# Altium footprint library Passive.PcbLib: 36 footprints (part 2 of 3)
Each footprint in its own frame and in the unit in brackets; x right, y up, seen from the top. Pads: shape width x height; smd on the part's side, far side on the other; paste and mask are expansions set on the pad; w line width, h text height; cw(c..) or ccw(c..) is an arc to the next point about the centre after c.
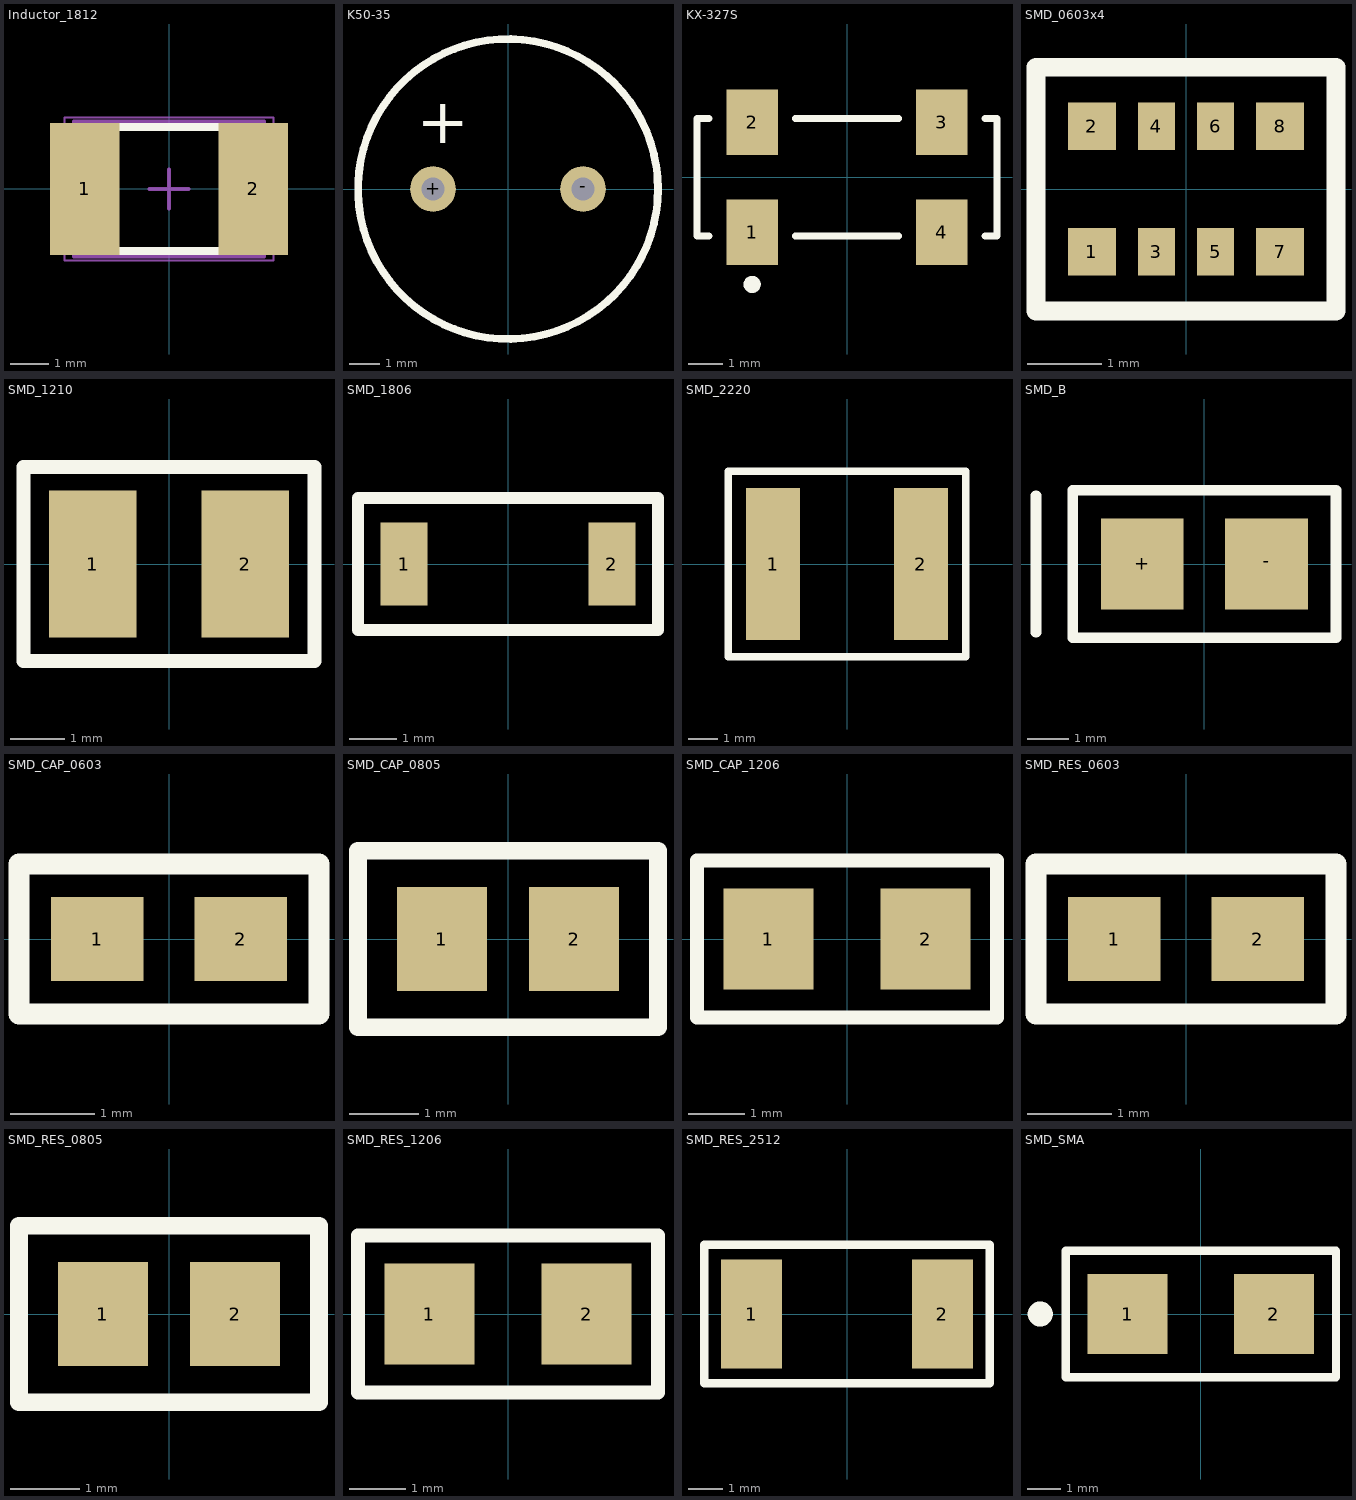
[diagram p1: the footprints below, top view; thin cyan lines are the x and y axes]

## Inductor_1812 [mm] "Body: SMD_1812; 4.5x3.2x2.6mm"
pads (2):
  rect 1.8x3.4 smd: 1(-2.175,0) 2(2.175,0)
Top Overlay:
  lines w0.2: -1.35,-1.6 1.35,-1.6 ; -1.35,1.6 1.35,1.6
Mechanical 13:
  lines w0.1: -2.45,-1.75 2.45,-1.75 2.45,1.75 -2.45,1.75 -2.45,-1.75
Mechanical 15:
  lines w0.05: -2.7,-1.85 2.7,-1.85 2.7,1.85 -2.7,1.85 -2.7,-1.85
  lines w0.1: -0.5,0 0.5,0 ; 0,-0.5 0,0.5
3D body "Inductor-lqh4c 1812.STEP": height 2.6, standoff 0, extent -2.2,-1.6 2.4,1.6

## K50-35 [mm]
pads (2):
  round 1.524 hole 0.75: +(-2.5,0) -(2.5,0)
Top Overlay:
  circle w0.254: c0,0 r5
  text "+" at -3.048,1.524 h1.52

## KX-327S [mm] "Quartz Crystal, SM; Body 8.7 x 3.8 (inc. leads) mm (LxW)"
height 2.5
pads (4):
  rect 1.5x1.9 smd: 1(-2.75,-1.6) 2(-2.75,1.6) 3(2.75,1.6) 4(2.75,-1.6)
Top Overlay:
  circle w0.25: c-2.75,-3.11 r0.125
  lines w0.2: -4,-1.7 -4.35,-1.7 -4.35,1.7 -4,1.7 ; -1.5,-1.7 1.5,-1.7 ; -1.5,1.7 1.5,1.7 ; 4,-1.7 4.35,-1.7 4.35,1.7 4,1.7
3D body "KX-327S.STEP": height 2.5, standoff 0, extent -4,-1.85 4,1.85

## SMD_0603x4 [mm]
pads (8):
  rect 0.65x0.65 smd: 1(-1.275,-0.85) 2(-1.275,0.85) 7(1.275,-0.85) 8(1.275,0.85)
  rect 0.5x0.65 smd: 3(-0.4,-0.85) 4(-0.4,0.85) 5(0.4,-0.85) 6(0.4,0.85)
Top Overlay:
  lines w0.254: -2.032,-1.651 2.032,-1.651 2.032,1.651 -2.032,1.651 -2.032,-1.651

## SMD_1210 [mm]
pads (2):
  rect 1.6x2.7 smd: 1(-1.4,0) 2(1.4,0)
Top Overlay:
  lines w0.254: -2.667,-1.778 -2.667,1.778 2.667,1.778 2.667,-1.778 -2.667,-1.778

## SMD_1806 [mm]
pads (2):
  rect 1x1.75 smd: 1(-2.2,0) 2(2.2,0)
Top Overlay:
  lines w0.254: -3.175,-1.397 3.175,-1.397 3.175,1.397 -3.175,1.397 -3.175,-1.397
3D body "L1806.STEP": height 1.6, standoff 0, extent -2.25,-0.8 2.25,0.8

## SMD_2220 [mm]
pads (2):
  rect 1.85x5.2 smd: 1(-2.53,0) 2(2.53,0)
Top Overlay:
  lines w0.254: -4.064,-3.175 4.064,-3.175 4.064,3.175 -4.064,3.175 -4.064,-3.175

## SMD_B [mm]
pads (2):
  rect 2x2.2 smd: +(-1.5,0) -(1.5,0)
Top Overlay:
  lines w0.254: -4.064,-1.651 -4.064,1.651 ; -3.175,-1.778 3.175,-1.778 3.175,1.778 -3.175,1.778 -3.175,-1.778

## SMD_CAP_0603 [mm]
pads (2):
  rect 1.1x1 smd: 1(-0.85,0) 2(0.85,0)
Top Overlay:
  lines w0.254: -1.778,-0.889 -1.778,0.889 1.778,0.889 1.778,-0.889 -1.778,-0.889
3D body "SW3dPS-0603 SMD Capacitor.STEP": height 0.3, standoff 0, extent -0.8,-0.4 0.8,0.4

## SMD_CAP_0805 [mm]
pads (2):
  rect 1.3x1.5 smd: 1(-0.95,0) 2(0.95,0)
Top Overlay:
  lines w0.254: -2.159,-1.27 -2.159,1.27 -1.905,1.27 2.159,1.27 2.159,-1.27 -2.159,-1.27
3D body "SW3dPS-0805 SMD Capacitor.STEP": height 0.78, standoff 0, extent -1,-0.625 1,0.625

## SMD_CAP_1206 [mm]
pads (2):
  rect 1.6x1.8 smd: 1(-1.397,0) 2(1.4,0)
Top Overlay:
  lines w0.254: -2.667,-1.397 2.667,-1.397 2.667,1.397 -2.667,1.397 -2.667,-1.397
3D body "SW3dPS-1206 SMD Capacitor.STEP": height 1, standoff 0, extent -1.6,-0.825 1.6,0.775

## SMD_RES_0603 [mm]
pads (2):
  rect 1.1x1 smd: 1(-0.85,0) 2(0.85,0)
Top Overlay:
  lines w0.254: -1.778,-0.889 -1.778,0.889 1.778,0.889 1.778,-0.889 -1.778,-0.889
3D body "User Library-R SMD 0603.STEP": height 0.26, standoff -0.19, extent -0.849,-0.422 0.791,0.428

## SMD_RES_0805 [mm]
pads (2):
  rect 1.3x1.5 smd: 1(-0.95,0) 2(0.95,0)
Top Overlay:
  lines w0.254: -2.159,-1.27 -2.159,1.27 -1.905,1.27 2.159,1.27 2.159,-1.27 -2.159,-1.27
3D body "SW3dPS-0805 SMD Resistor.STEP": height 0.78, standoff 0, extent -1.025,-0.625 0.975,0.625

## SMD_RES_1206 [mm]
pads (2):
  rect 1.6x1.8 smd: 1(-1.397,0) 2(1.4,0)
Top Overlay:
  lines w0.254: -2.667,-1.397 2.667,-1.397 2.667,1.397 -2.667,1.397 -2.667,-1.397
3D body "SW3dPS-1206 SMD Resistor.STEP": height 1, standoff 0, extent -1.625,-0.8 1.575,0.8

## SMD_RES_2512 [mm]
pads (2):
  rect 1.8x3.2 smd: 1(-2.8,0) 2(2.8,0)
Top Overlay:
  lines w0.254: -4.191,-2.032 4.191,-2.032 4.191,2.032 -4.191,2.032 -4.191,-2.032
3D body "User Library-R SMD 2512.STEP": height 0.82, standoff 0.22, extent -3.081,-1.6 3.219,1.55

## SMD_SMA [mm]
pads (2):
  rect 2.4x2.4 smd: 1(-2.2,0) 2(2.2,0)
Top Overlay:
  circle w0.5: c-4.826,0 r0.127
  lines w0.254: -4.064,-1.905 4.064,-1.905 4.064,1.905 -4.064,1.905 -4.064,-1.905